# EAGLE library part A4940KLPTR-T (library icv1)
IC MOSF DVR FULL BRIDGE 24TSSOP tested: YES (etherbotix)
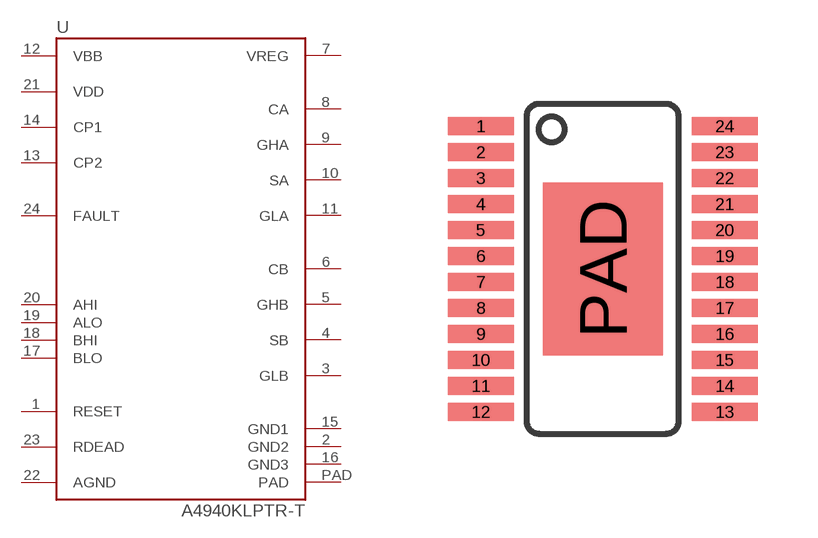
[diagram p4: symbol with the pads of TSSOP24; footprint TSSOP24]

Designator prefix U

## A4940KLPTR-T (AVAILABILITY: Unavailable; DESCRIPTION: Sürücü 1-OUT Yüksek / Düşük Taraflı Full Brdg Inv Otomotiv 24 Pinli TSSOP EP T / R; MF: Allegro MicroSystems LLC; MP: A4940KLPTR-T; PACKAGE: TSSOP-24 Allegro MicroSystems LLC; PRICE: None)  [TSSOP24]
1  RESET
2  GND2
3  GLB
4  SB
5  GHB
6  CB
7  VREG
8  CA
9  GHA
10  SA
11  GLA
12  VBB
13  CP2
14  CP1
15  GND1
16  GND3
17  BLO
18  BHI
19  ALO
20  AHI
21  VDD
22  AGND
23  RDEAD
24  FAULT
PAD  PAD

## Footprint TSSOP24 (pad centres in mm)
smd 1.65 x 0.45: 1 -3.05,3.575; 2 -3.05,2.925; 3 -3.05,2.275; 4 -3.05,1.625; 5 -3.05,0.975; 6 -3.05,0.325; 7 -3.05,-0.325; 8 -3.05,-0.975; 9 -3.05,-1.625; 10 -3.05,-2.275; 11 -3.05,-2.925; 12 -3.05,-3.575; 13 3.05,-3.575; 14 3.05,-2.925; 15 3.05,-2.275; 16 3.05,-1.625; 17 3.05,-0.975; 18 3.05,-0.325; 19 3.05,0.325; 20 3.05,0.975; 21 3.05,1.625; 22 3.05,2.275; 23 3.05,2.925; 24 3.05,3.575
smd 3 x 4.32: PAD 0,0